# Altium integrated library Texas Instruments Power Management PWM Controller.IntLib: 1227 symbols (part 40 of 49)
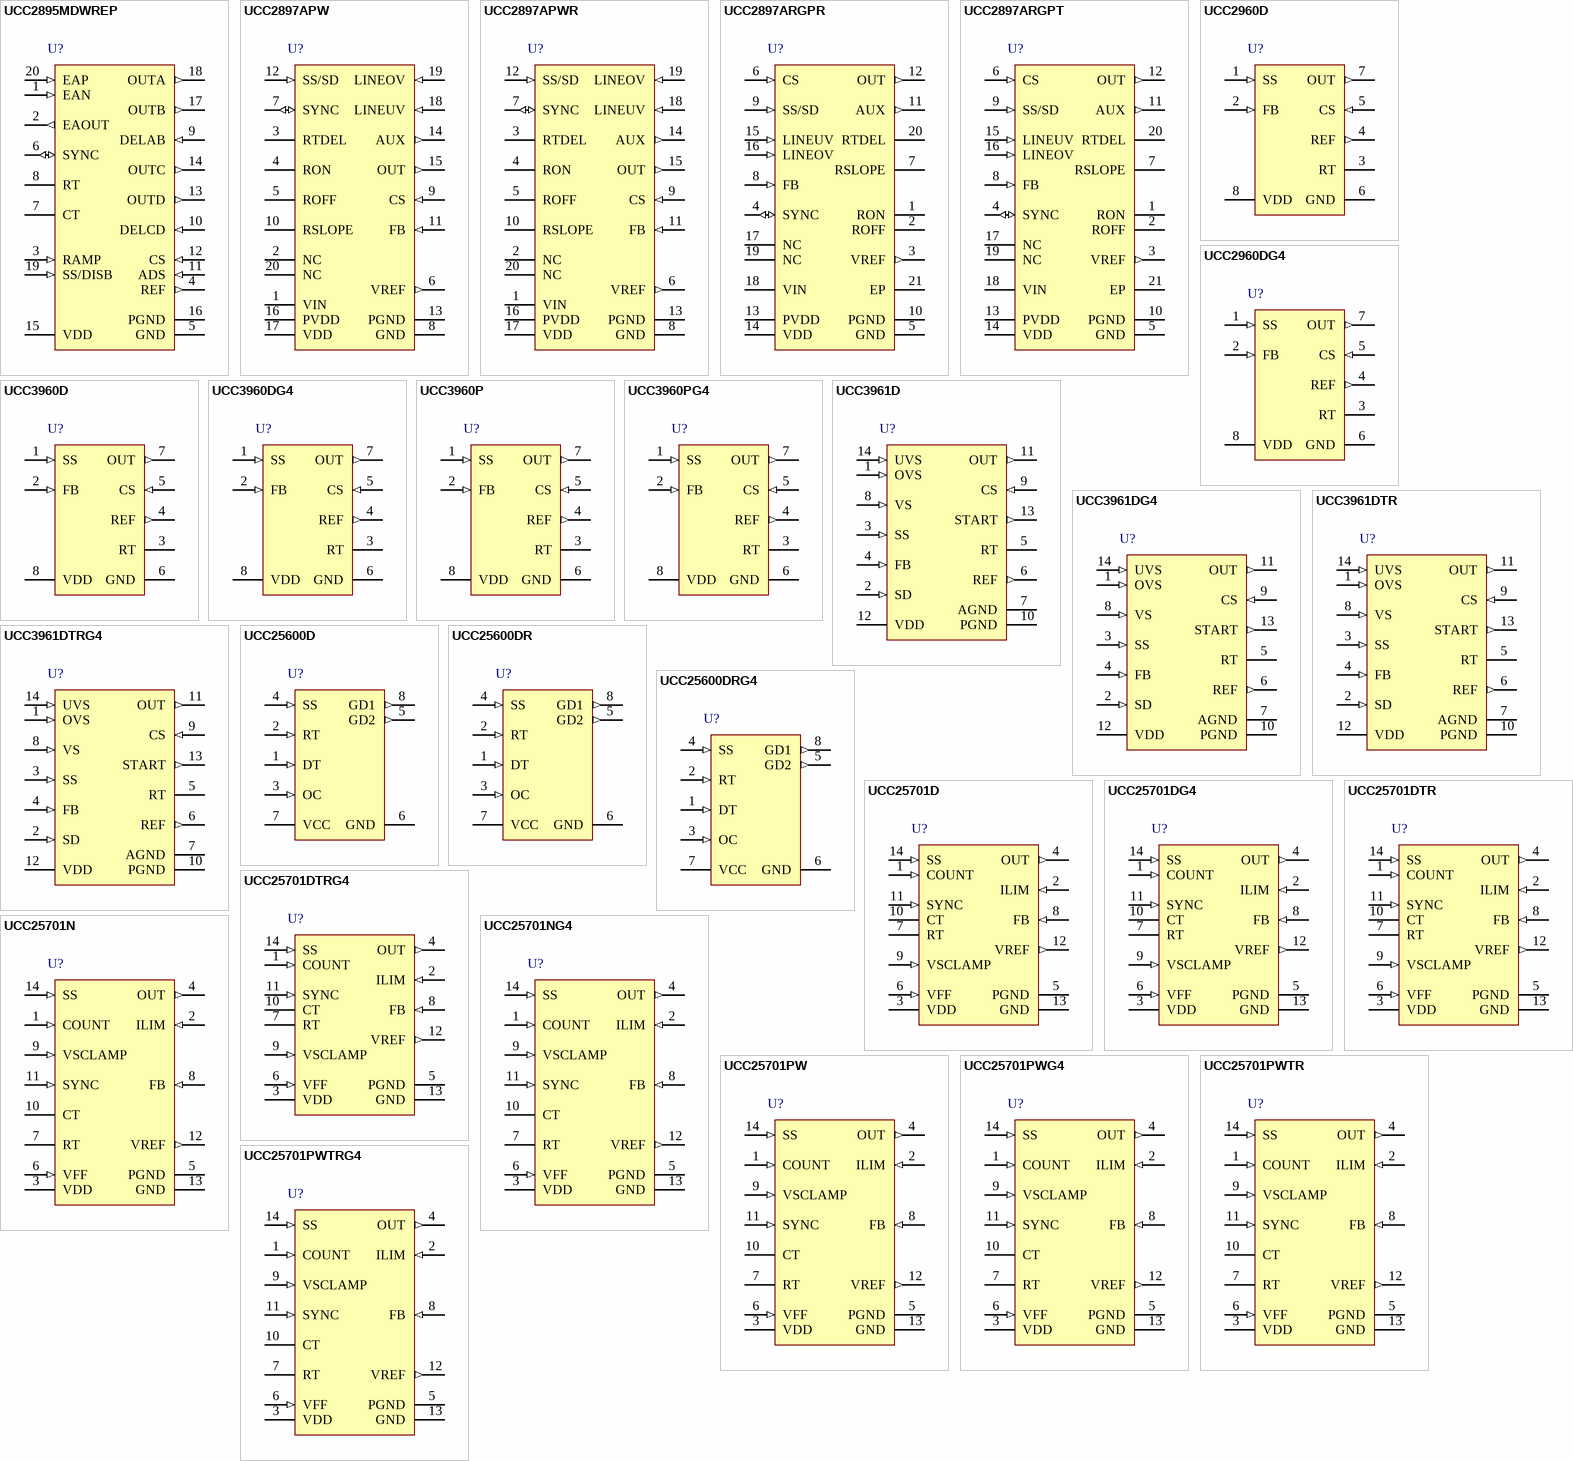
[diagram p82: symbols UCC2895MDWREP to UCC25701PWTRG4]

## UCC2897APW
designator U?
Advanced Active Clamp PWM Controller with Current Control, -40 to +125 degC, 20-pin TSSOP (PW), Green (RoHS & no Sb/Br); PartNumber: UCC2897APW; Manufacturer: Texas Instruments; Frequency(Max)(kHz): 1000; Rating: Catalog; Regulated Outputs(#): 1; DatasheetVersion: SLUS829D; PackageVersion: revG, Feb-2011; PackageReference: PW20; PackageDescription: 20-Pin Plastic Thin Small Outline Package 6.5 x 4.4 mm Body ,0.65 mm Pitch; Supplier 1: Digi-Key; Supplier Part Number 1: 296-27163-5-ND; Supplier 2: Farnell; Supplier Part Number 2: 1710839; Supplier 3: Newark; Supplier Part Number 3: 45P8386; Supplier 4: Mouser; Supplier Part Number 4: 595-UCC2897APW; Control Method: Current; Eco-Plan: Green (RoHS & no Sb/Br); SubFamily: PWM Controller; Mounting Technology: Surface Mount; Code_JEDEC: MO-153; ComponentLink1Description: Datasheet; ComponentLink1URL: http://www.ti.com/general/docs/lit/getliterature.tsp?genericPartNumber=UCC2897A&fileType=pdf
footprint PW20_N (TSOP, 20-Leads, Body 6.5x4.4mm, Pitch 0.65mm, IPC Medium Density)
footprint PW20_L (TSOP, 20-Leads, Body 6.5x4.4mm, Pitch 0.65mm, IPC High Density)
footprint PW20_M (TSOP, 20-Leads, Body 6.5x4.4mm, Pitch 0.65mm, IPC Low Density)
pins: 1 VIN (power) "This pin is connected to the input power rail directly. Inside the device, a high-voltage start-up device is utilized to provide the start-up current for the controller until a bootstrap type bias rail becomes available.", 2 NC "No connection.", 3 RTDEL "A resistor from this pin to GND programs the turn-on delay of the two gate drive outputs to accommodate the resonant transitions of the active clamp power converter.", 4 RON "A resistor connected from this pin to GND programs an internal current source that charges the internal timing capacitor.", 5 ROFF "A resistor connected from this pin to GND programs an internal current source that discharges the internal timing capacitor.", 6 VREF (out) "This is the 5-V reference voltage that can be utilized for an external load of up to 5 mA. Since this reference provides the supply rail for internal logic, it should be bypassed to AGND as close as possible to the device. (See Datasheet)", 7 SYNC (io) "The SYNC pin serves as a bidirectional synchronization input for the internal oscillator. The synchronization function is implemented such that the user programmable maximum duty cycle (set by RON and ROFF) remains accurate (See Datasheet)", 8 GND (power) "This pin serves as the fundamental analog ground for the PWM control circuitry. This pin should be connected to PGND directly at the device.", 9 CS (in) "This pin is used to sense the peak current utilized for current mode control and for current limiting functions. The peak signal which can be applied to this pin before pulse-by-pulse current limiting activates is (See Datasheet)", 10 RSLOPE "A resistor connected from this pin to GND programs an internal current source that sets the slope compensation ramp for the current mode control circuitry.", 11 FB (in) "This pin is used to bring the error signal from an external optocoupler or error amplifier into the PWM control circuitry. Often, there is a resistor tied from FB to VREF, and an optocoupler is used to pull the control pin (See Datasheet)", 12 SS/SD (in) "A capacitor from SS/SD to ground is charged by an internal current source of IRON to program the soft-start interval for the controller. During a fault condition this capacitor is discharged by a current source equal to IRON.", 13 PGND (power) "The PGND should serve as the current return for the high-current output drivers OUT and AUX. Ideally, the current path from the outputs to the switching devices, and back would be as short as possible, and enclose a minimal (See Datasheet)", 14 AUX (out) "This output drives the auxiliary clamp MOSFET which is turned on when the main PWM switching device is turned off. The AUX pin can directly drive the auxiliary switch with 2-A source turn-on current and 2-A sink turn-off (See Datasheet)", 15 OUT (out) "This output pin drives the main PWM switching element MOSFET in an active clamp controller. It can directly drive an N-channel device with 2-A source turn-on current and 2-A sink turn-off current. Recommend connecting a 10-k (See Datasheet)", 16 PVDD (power) "This is the supply pin for the power devices. It is separated internally from the VDD pin.", 17 VDD (power) "This is the power supply for the device. There should be a 1.0-uF capacitor directly from VDD to PGND. The capacitor value should be minimum 10 times bigger than that on VREF. PGND and GND should be connected externally and (See Datasheet)", 18 LINEUV (in) "This pin provides a means to accurately enable/disable the power converter stage by monitoring the bulk input voltage or another parameter. When the circuit initially starts (or restarts from a disabled condition), a rising (See Datasheet)", 19 LINEOV (in) "This is an input pin of voltage comparator with programmable hysteresis and 1.27-V threshold, providing LINE overvoltage or other functions.", 20 NC "No connection."

## UCC2897APWR
designator U?
Advanced Active Clamp PWM Controller with Current-Mode Control, -40 to +125 degC, 20-pin TSSOP (PW), Green (RoHS & no Sb/Br); PartNumber: UCC2897APWR; Manufacturer: Texas Instruments; Frequency(Max)(kHz): 1000; Rating: Catalog; Regulated Outputs(#): 1; DatasheetVersion: SLUS829D; PackageVersion: revG, Feb-2011; PackageReference: PW20; PackageDescription: 20-Pin Plastic Thin Small Outline Package 6.5 x 4.4 mm Body ,0.65 mm Pitch; Supplier 1: Digi-Key; Supplier Part Number 1: 296-24092-1-ND; Supplier 2: Digi-Key; Supplier Part Number 2: 296-24092-6-ND; Supplier 3: Newark; Supplier Part Number 3: 45P8387; Supplier 4: Mouser; Supplier Part Number 4: 595-UCC2897APWR; Control Method: Current; Eco-Plan: Green (RoHS & no Sb/Br); SubFamily: PWM Controller; Mounting Technology: Surface Mount; Code_JEDEC: MO-153; ComponentLink1Description: Datasheet; ComponentLink1URL: http://www.ti.com/general/docs/lit/getliterature.tsp?genericPartNumber=UCC2897A&fileType=pdf
footprint PW20_N (TSOP, 20-Leads, Body 6.5x4.4mm, Pitch 0.65mm, IPC Medium Density)
footprint PW20_L (TSOP, 20-Leads, Body 6.5x4.4mm, Pitch 0.65mm, IPC High Density)
footprint PW20_M (TSOP, 20-Leads, Body 6.5x4.4mm, Pitch 0.65mm, IPC Low Density)
pins: 1 VIN (power) "This pin is connected to the input power rail directly. Inside the device, a high-voltage start-up device is utilized to provide the start-up current for the controller until a bootstrap type bias rail becomes available.", 2 NC "No connection.", 3 RTDEL "A resistor from this pin to GND programs the turn-on delay of the two gate drive outputs to accommodate the resonant transitions of the active clamp power converter.", 4 RON "A resistor connected from this pin to GND programs an internal current source that charges the internal timing capacitor.", 5 ROFF "A resistor connected from this pin to GND programs an internal current source that discharges the internal timing capacitor.", 6 VREF (out) "This is the 5-V reference voltage that can be utilized for an external load of up to 5 mA. Since this reference provides the supply rail for internal logic, it should be bypassed to AGND as close as possible to the device. (See Datasheet)", 7 SYNC (io) "The SYNC pin serves as a bidirectional synchronization input for the internal oscillator. The synchronization function is implemented such that the user programmable maximum duty cycle (set by RON and ROFF) remains accurate (See Datasheet)", 8 GND (power) "This pin serves as the fundamental analog ground for the PWM control circuitry. This pin should be connected to PGND directly at the device.", 9 CS (in) "This pin is used to sense the peak current utilized for current mode control and for current limiting functions. The peak signal which can be applied to this pin before pulse-by-pulse current limiting activates is (See Datasheet)", 10 RSLOPE "A resistor connected from this pin to GND programs an internal current source that sets the slope compensation ramp for the current mode control circuitry.", 11 FB (in) "This pin is used to bring the error signal from an external optocoupler or error amplifier into the PWM control circuitry. Often, there is a resistor tied from FB to VREF, and an optocoupler is used to pull the control pin (See Datasheet)", 12 SS/SD (in) "A capacitor from SS/SD to ground is charged by an internal current source of IRON to program the soft-start interval for the controller. During a fault condition this capacitor is discharged by a current source equal to IRON.", 13 PGND (power) "The PGND should serve as the current return for the high-current output drivers OUT and AUX. Ideally, the current path from the outputs to the switching devices, and back would be as short as possible, and enclose a minimal (See Datasheet)", 14 AUX (out) "This output drives the auxiliary clamp MOSFET which is turned on when the main PWM switching device is turned off. The AUX pin can directly drive the auxiliary switch with 2-A source turn-on current and 2-A sink turn-off (See Datasheet)", 15 OUT (out) "This output pin drives the main PWM switching element MOSFET in an active clamp controller. It can directly drive an N-channel device with 2-A source turn-on current and 2-A sink turn-off current. Recommend connecting a 10-k (See Datasheet)", 16 PVDD (power) "This is the supply pin for the power devices. It is separated internally from the VDD pin.", 17 VDD (power) "This is the power supply for the device. There should be a 1.0-uF capacitor directly from VDD to PGND. The capacitor value should be minimum 10 times bigger than that on VREF. PGND and GND should be connected externally and (See Datasheet)", 18 LINEUV (in) "This pin provides a means to accurately enable/disable the power converter stage by monitoring the bulk input voltage or another parameter. When the circuit initially starts (or restarts from a disabled condition), a rising (See Datasheet)", 19 LINEOV (in) "This is an input pin of voltage comparator with programmable hysteresis and 1.27-V threshold, providing LINE overvoltage or other functions.", 20 NC "No connection."

## UCC2897ARGPR
designator U?
Advanced Active Clamp PWM Controller with Current Control, -40 to +125 degC, 20-pin QFN (RGP), Green (RoHS & no Sb/Br); PartNumber: UCC2897ARGPR; Manufacturer: Texas Instruments; Frequency(Max)(kHz): 1000; Rating: Catalog; Regulated Outputs(#): 1; DatasheetVersion: SLUS829D; PackageVersion: revG, Jul-2011; PackageReference: RGP20-2700X2700TP; PackageDescription: 20-Pin Plastic Quad Flatpack No-Lead, 4 x 4 mm Body, 0.5 mm Pitch; Supplier 1: Digi-Key; Supplier Part Number 1: UCC2897ARGPR-ND; Supplier 2: Mouser; Supplier Part Number 2: 595-UCC2897ARGPR; Control Method: Current; Eco-Plan: Green (RoHS & no Sb/Br); SubFamily: PWM Controller; Mounting Technology: Surface Mount; Code_JEDEC: MO-220; ComponentLink1Description: Datasheet; ComponentLink1URL: http://www.ti.com/general/docs/lit/getliterature.tsp?genericPartNumber=UCC2897A&fileType=pdf
footprint RGP20-2700X2700TP (QFN, 20-Leads, Body 4x4mm, Pitch 0.5mm, Thermal Pad 2.7x2.7mm, TI Recommended)
pins: 1 RON "A resistor connected from this pin to GND programs an internal current source that charges the internal timing capacitor.", 2 ROFF "A resistor connected from this pin to GND programs an internal current source that discharges the internal timing capacitor.", 3 VREF (out) "This is the 5 V reference voltage that can be utilized for an external load of up to 5 mA. Since this reference provides the supply rail for internal logic, it should be bypassed to AGND as close as possible to the device. (See Datasheet)", 4 SYNC (io) "The SYNC pin serves as a bidirectional synchronization input for the internal oscillator. The synchronization function is implemented such that the user programmable maximum duty cycle (set by RON and ROFF) remains accurate (See Datasheet)", 5 GND (power) "This pin serves as the fundamental analog ground for the PWM control circuitry. This pin should be connected to PGND directly at the device.", 6 CS (in) "This pin is used to sense the peak current utilized for current mode control and for current limiting functions. The peak signal which can be applied to this pin before pulse-by-pulse current limiting activates is (See Datasheet)", 7 RSLOPE "A resistor connected from this pin to GND programs an internal current source that sets the slope compensation ramp for the current mode control circuitry.", 8 FB (in) "This pin is used to bring the error signal from an external optocoupler or error amplifier into the PWM control circuitry. Often, there is a resistor tied from FB to VREF, and an optocoupler is used to pull the control pin (See Datasheet)", 9 SS/SD (in) "A capacitor from SS/SD to ground is charged by an internal current source of IRON to program the soft?start interval for the controller. During a fault condition this capacitor is discharged by a current source equal to IRON.", 10 PGND (power) "The PGND should serve as the current return for the high-current output drivers OUT and AUX. Ideally, the current path from the outputs to the switching devices, and back would be as short as possible, and enclose a minimal (See Datasheet)", 11 AUX (out) "This output drives the auxiliary clamp MOSFET which is turned on when the main PWM switching device is turned off. The AUX pin can directly drive the auxiliary switch with 2-A source turn-on current and 2-A sink turn-off (See Datasheet)", 12 OUT (out) "This output pin drives the main PWM switching element MOSFET in an active clamp controller. It can directly drive an N?channel device with 2?A source turn?on current and 2?A sink turn?off current. Recommend connecting a 10?k (See Datasheet)", 13 PVDD (power) "This is the supply pin for the power devices. It is separated internally from the VDD pin.", 14 VDD (power) "This is the power supply for the device. There should be a 1.0 uF capacitor directly from VDD to PGND. The capacitor value should be minimum 10 times bigger than that on VREF. PGND and GND should be connected externally and (See Datasheet)", 15 LINEUV (in) "This pin provides a means to accurately enable/disable the power converter stage by monitoring the bulk input voltage or another parameter. When the circuit initially starts (or restarts from a disabled condition), a rising (See Datasheet)", 16 LINEOV (in) "This is an input pin of voltage comparator with programmable hysteresis and 1.27 V threshold, providing LINE overvoltage or other functions.", 17 NC "No Connected", 18 VIN (power) "This pin is connected to the input power rail directly. Inside the device, a high voltage start-up device is utilized to provide the start-up current for the controller until a bootstrap type bias rail becomes available.", 19 NC "No Connected", 20 RTDEL "A resistor from this pin to GND programs the turn-on delay of the two gate drive outputs to accommodate the resonant transitions of the active clamp power converter.", 21 EP "Exposed Pad"

## UCC2897ARGPT
designator U?
Advanced Current-Mode Active Clamp PWM Controller with Current Control, -40 to +125 degC, 20-pin QFN (RGP), Green (RoHS & no Sb/Br); PartNumber: UCC2897ARGPT; Manufacturer: Texas Instruments; Frequency(Max)(kHz): 1000; Rating: Catalog; Regulated Outputs(#): 1; DatasheetVersion: SLUS829D; PackageVersion: revG, Jul-2011; PackageReference: RGP20-2700X2700TP; PackageDescription: 20-Pin Plastic Quad Flatpack No-Lead, 4 x 4 mm Body, 0.5 mm Pitch; Supplier 1: Digi-Key; Supplier Part Number 1: 296-24093-2-ND; Supplier 2: Digi-Key; Supplier Part Number 2: 296-24093-1-ND; Supplier 3: Digi-Key; Supplier Part Number 3: 296-24093-6-ND; Supplier 4: Newark; Supplier Part Number 4: 45P8389; Supplier 5: Newark; Supplier Part Number 5: 46P3779; Supplier 6: Mouser; Supplier Part Number 6: 595-UCC2897ARGPT; Control Method: Current; Eco-Plan: Green (RoHS & no Sb/Br); SubFamily: PWM Controller; Mounting Technology: Surface Mount; Code_JEDEC: MO-220; ComponentLink1Description: Datasheet; ComponentLink1URL: http://www.ti.com/general/docs/lit/getliterature.tsp?genericPartNumber=UCC2897A&fileType=pdf
footprint RGP20-2700X2700TP (QFN, 20-Leads, Body 4x4mm, Pitch 0.5mm, Thermal Pad 2.7x2.7mm, TI Recommended)
pins: 1 RON "A resistor connected from this pin to GND programs an internal current source that charges the internal timing capacitor.", 2 ROFF "A resistor connected from this pin to GND programs an internal current source that discharges the internal timing capacitor.", 3 VREF (out) "This is the 5 V reference voltage that can be utilized for an external load of up to 5 mA. Since this reference provides the supply rail for internal logic, it should be bypassed to AGND as close as possible to the device. (See Datasheet)", 4 SYNC (io) "The SYNC pin serves as a bidirectional synchronization input for the internal oscillator. The synchronization function is implemented such that the user programmable maximum duty cycle (set by RON and ROFF) remains accurate (See Datasheet)", 5 GND (power) "This pin serves as the fundamental analog ground for the PWM control circuitry. This pin should be connected to PGND directly at the device.", 6 CS (in) "This pin is used to sense the peak current utilized for current mode control and for current limiting functions. The peak signal which can be applied to this pin before pulse-by-pulse current limiting activates is (See Datasheet)", 7 RSLOPE "A resistor connected from this pin to GND programs an internal current source that sets the slope compensation ramp for the current mode control circuitry.", 8 FB (in) "This pin is used to bring the error signal from an external optocoupler or error amplifier into the PWM control circuitry. Often, there is a resistor tied from FB to VREF, and an optocoupler is used to pull the control pin (See Datasheet)", 9 SS/SD (in) "A capacitor from SS/SD to ground is charged by an internal current source of IRON to program the soft?start interval for the controller. During a fault condition this capacitor is discharged by a current source equal to IRON.", 10 PGND (power) "The PGND should serve as the current return for the high-current output drivers OUT and AUX. Ideally, the current path from the outputs to the switching devices, and back would be as short as possible, and enclose a minimal (See Datasheet)", 11 AUX (out) "This output drives the auxiliary clamp MOSFET which is turned on when the main PWM switching device is turned off. The AUX pin can directly drive the auxiliary switch with 2-A source turn-on current and 2-A sink turn-off (See Datasheet)", 12 OUT (out) "This output pin drives the main PWM switching element MOSFET in an active clamp controller. It can directly drive an N?channel device with 2?A source turn?on current and 2?A sink turn?off current. Recommend connecting a 10?k (See Datasheet)", 13 PVDD (power) "This is the supply pin for the power devices. It is separated internally from the VDD pin.", 14 VDD (power) "This is the power supply for the device. There should be a 1.0 uF capacitor directly from VDD to PGND. The capacitor value should be minimum 10 times bigger than that on VREF. PGND and GND should be connected externally and (See Datasheet)", 15 LINEUV (in) "This pin provides a means to accurately enable/disable the power converter stage by monitoring the bulk input voltage or another parameter. When the circuit initially starts (or restarts from a disabled condition), a rising (See Datasheet)", 16 LINEOV (in) "This is an input pin of voltage comparator with programmable hysteresis and 1.27 V threshold, providing LINE overvoltage or other functions.", 17 NC "No Connected", 18 VIN (power) "This pin is connected to the input power rail directly. Inside the device, a high voltage start-up device is utilized to provide the start-up current for the controller until a bootstrap type bias rail becomes available.", 19 NC "No Connected", 20 RTDEL "A resistor from this pin to GND programs the turn-on delay of the two gate drive outputs to accommodate the resonant transitions of the active clamp power converter.", 21 EP "Exposed Pad"

## UCC2960D
designator U?
Primary-Side Startup Controller, 72 % Duty Cycle, -40 to +85 degC, 8-pin SOIC (D), Green (RoHS & no Sb/Br); PartNumber: UCC2960D; Manufacturer: Texas Instruments; Duty Cycle(Max)(%): 72; Frequency(Max)(kHz): 400; Rating: Catalog; Regulated Outputs(#): 1; SubFamily: PWM Controller; DatasheetVersion: SLUS430A; PackageVersion: revM, Jun-2011; PackageReference: D8; PackageDescription: 8-Pin Plastic Small Outline Integrated Circuit, 4.9 x 3.9 mm, Pitch 1.27 mm Pitch; Supplier 1: Digi-Key; Supplier Part Number 1: 296-11421-5-ND; Supplier 2: Newark; Supplier Part Number 2: 77C2231; Supplier 3: Mouser; Supplier Part Number 3: 595-UCC2960D; Eco-Plan: Green (RoHS & no Sb/Br); Mounting Technology: Surface Mount; Code_JEDEC: MS-012AA; ComponentLink1Description: Datasheet; ComponentLink1URL: http://www.ti.com/general/docs/lit/getliterature.tsp?genericPartNumber=UCC2960&fileType=pdf
footprint D8_N (SOIC, 8-Leads, Body 4.9x3.9mm, Pitch 1.27mm, IPC Medium Density)
footprint D8_L (SOIC, 8-Leads, Body 4.9x3.9mm, Pitch 1.27mm, IPC High Density)
footprint D8_M (SOIC, 8-Leads, Body 4.9x3.9mm, Pitch 1.27mm, IPC Low Density)
pins: 1 SS (in) "Primary-side soft-start function", 2 FB (in) "Control input for the signal from a secondary-side PWM controller", 3 RT "Sets the free-running startup oscillator frequency", 4 REF (out) "Output reference", 5 CS (in) "Pulse-by-pulse and shutdown overcurrent sense input pin", 6 GND (power) "Ground for the IC.", 7 OUT (out) "Drive pin for the MOSFET power switch", 8 VDD (power) "Power input connection"

## UCC2960DG4
designator U?
Primary-Side Startup Controllor, 72 % Duty Cycle, -40 to +85 degC, 8-pin SOIC (D), Green (RoHS & no Sb/Br); PartNumber: UCC2960DG4; Manufacturer: Texas Instruments; Duty Cycle(Max)(%): 72; Frequency(Max)(kHz): 400; Rating: Catalog; Regulated Outputs(#): 1; SubFamily: PWM Controller; DatasheetVersion: SLUS430A; PackageVersion: revM, Jun-2011; PackageReference: D8; PackageDescription: 8-Pin Plastic Small Outline Integrated Circuit, 4.9 x 3.9 mm, Pitch 1.27 mm Pitch; Supplier 1: Digi-Key; Supplier Part Number 1: UCC2960DG4-ND; Supplier 2: Newark; Supplier Part Number 2: 54K2078; Supplier 3: Mouser; Supplier Part Number 3: 595-UCC2960DG4; Eco-Plan: Green (RoHS & no Sb/Br); Mounting Technology: Surface Mount; Code_JEDEC: MS-012AA; ComponentLink1Description: Datasheet; ComponentLink1URL: http://www.ti.com/general/docs/lit/getliterature.tsp?genericPartNumber=UCC2960&fileType=pdf
footprint D8_N (SOIC, 8-Leads, Body 4.9x3.9mm, Pitch 1.27mm, IPC Medium Density)
footprint D8_L (SOIC, 8-Leads, Body 4.9x3.9mm, Pitch 1.27mm, IPC High Density)
footprint D8_M (SOIC, 8-Leads, Body 4.9x3.9mm, Pitch 1.27mm, IPC Low Density)
pins: 1 SS (in) "Primary-side soft-start function", 2 FB (in) "Control input for the signal from a secondary-side PWM controller", 3 RT "Sets the free-running startup oscillator frequency", 4 REF (out) "Output reference", 5 CS (in) "Pulse-by-pulse and shutdown overcurrent sense input pin", 6 GND (power) "Ground for the IC.", 7 OUT (out) "Drive pin for the MOSFET power switch", 8 VDD (power) "Power input connection"

## UCC3960D
designator U?
Primary-Side Startup Controller, 72 % Duty Cycle, 0 to +70 degC, 8-pin, SOIC (D), Green (RoHS & no Sb/Br); PartNumber: UCC3960D; Manufacturer: Texas Instruments; Duty Cycle(Max)(%): 72; Frequency(Max)(kHz): 400; Rating: Catalog; Regulated Outputs(#): 1; SubFamily: PWM Controller; DatasheetVersion: SLUS430A; PackageVersion: revM, Jun-2011; PackageReference: D8; PackageDescription: 8-Pin Plastic Small Outline Integrated Circuit, 4.9 x 3.9 mm, Pitch 1.27 mm Pitch; Supplier 1: Digi-Key; Supplier Part Number 1: 296-11561-5-ND; Supplier 2: Newark; Supplier Part Number 2: 77C2661; Supplier 3: Mouser; Supplier Part Number 3: 595-UCC3960D; Eco-Plan: Green (RoHS & no Sb/Br); Mounting Technology: Surface Mount; Code_JEDEC: MS-012AA; ComponentLink1Description: Datasheet; ComponentLink1URL: http://www.ti.com/general/docs/lit/getliterature.tsp?genericPartNumber=UCC3960&fileType=pdf
footprint D8_N (SOIC, 8-Leads, Body 4.9x3.9mm, Pitch 1.27mm, IPC Medium Density)
footprint D8_L (SOIC, 8-Leads, Body 4.9x3.9mm, Pitch 1.27mm, IPC High Density)
footprint D8_M (SOIC, 8-Leads, Body 4.9x3.9mm, Pitch 1.27mm, IPC Low Density)
pins: 1 SS (in) "Primary-side soft-start function", 2 FB (in) "Control input for the signal from a secondary-side PWM controller", 3 RT "Sets the free-running startup oscillator frequency.", 4 REF (out) "Output reference", 5 CS (in) "Pulse-by-pulse and shutdown overcurrent sense input pin", 6 GND (power) "Ground for the IC.", 7 OUT (out) "Drive pin for the MOSFET power switch", 8 VDD (power) "Power input connection"

## UCC3960DG4
designator U?
Primary-Side Startup Controller, 72 % Duty Cycle, 0 to +70 degC, 8-pin, SOIC (D), Green (RoHS & no Sb/Br); PartNumber: UCC3960DG4; Manufacturer: Texas Instruments; Duty Cycle(Max)(%): 72; Frequency(Max)(kHz): 400; Rating: Catalog; Regulated Outputs(#): 1; SubFamily: PWM Controller; DatasheetVersion: SLUS430A; PackageVersion: revM, Jun-2011; PackageReference: D8; PackageDescription: 8-Pin Plastic Small Outline Integrated Circuit, 4.9 x 3.9 mm, Pitch 1.27 mm Pitch; Supplier 1: Digi-Key; Supplier Part Number 1: UCC3960DG4-ND; Supplier 2: Newark; Supplier Part Number 2: 54K2211; Supplier 3: Mouser; Supplier Part Number 3: 595-UCC3960DG4; Eco-Plan: Green (RoHS & no Sb/Br); Mounting Technology: Surface Mount; Code_JEDEC: MS-012AA; ComponentLink1Description: Datasheet; ComponentLink1URL: http://www.ti.com/general/docs/lit/getliterature.tsp?genericPartNumber=UCC3960&fileType=pdf
footprint D8_N (SOIC, 8-Leads, Body 4.9x3.9mm, Pitch 1.27mm, IPC Medium Density)
footprint D8_L (SOIC, 8-Leads, Body 4.9x3.9mm, Pitch 1.27mm, IPC High Density)
footprint D8_M (SOIC, 8-Leads, Body 4.9x3.9mm, Pitch 1.27mm, IPC Low Density)
pins: 1 SS (in) "Primary-side soft-start function", 2 FB (in) "Control input for the signal from a secondary-side PWM controller", 3 RT "Sets the free-running startup oscillator frequency.", 4 REF (out) "Output reference", 5 CS (in) "Pulse-by-pulse and shutdown overcurrent sense input pin", 6 GND (power) "Ground for the IC.", 7 OUT (out) "Drive pin for the MOSFET power switch", 8 VDD (power) "Power input connection"

## UCC3960P
designator U?
Primary-Side Startup Controller, 72 % Duty Cycle, 0 to +70 degC, 8-pin, PDIP (P), Green (RoHS & no Sb/Br); PartNumber: UCC3960P; Manufacturer: Texas Instruments; Duty Cycle(Max)(%): 72; Frequency(Max)(kHz): 400; Rating: Catalog; Regulated Outputs(#): 1; SubFamily: PWM Controller; DatasheetVersion: SLUS430A; PackageVersion: revE, Apr-2010; PackageReference: P8; PackageDescription: 8-Pin Plastic Dual-In-Line Package, Row Spacing 7.62 mm, Pitch 2.54 mm; Supplier 1: Digi-Key; Supplier Part Number 1: 296-11562-5-ND; Supplier 2: Newark; Supplier Part Number 2: 77C2663; Supplier 3: Mouser; Supplier Part Number 3: 595-UCC3960P; Eco-Plan: Green (RoHS & no Sb/Br); Mounting Technology: Through Hole; Code_JEDEC: MS-001-BA; ComponentLink1Description: Datasheet; ComponentLink1URL: http://www.ti.com/general/docs/lit/getliterature.tsp?genericPartNumber=UCC3960&fileType=pdf
footprint P8 (DIP, 8-Leads, Row Spacing 7.62mm, Pitch 2.54mm, Body 9.6x6.4mm)
pins: 1 SS (in) "Primary-side soft-start function", 2 FB (in) "Control input for the signal from a secondary-side PWM controller", 3 RT "Sets the free-running startup oscillator frequency.", 4 REF (out) "Output reference", 5 CS (in) "Pulse-by-pulse and shutdown overcurrent sense input pin", 6 GND (power) "Ground for the IC.", 7 OUT (out) "Drive pin for the MOSFET power switch", 8 VDD (power) "Power input connection"

## UCC3960PG4
designator U?
Primary-Side Startup Controller, 72 % Duty Cycle, 0 to +70 degC, 8-pin, PDIP (P), Green (RoHS & no Sb/Br); PartNumber: UCC3960PG4; Manufacturer: Texas Instruments; Duty Cycle(Max)(%): 72; Frequency(Max)(kHz): 400; Rating: Catalog; Regulated Outputs(#): 1; SubFamily: PWM Controller; DatasheetVersion: SLUS430A; PackageVersion: revE, Apr-2010; PackageReference: P8; PackageDescription: 8-Pin Plastic Dual-In-Line Package, Row Spacing 7.62 mm, Pitch 2.54 mm; Supplier 1: Digi-Key; Supplier Part Number 1: UCC3960PG4-ND; Supplier 2: Newark; Supplier Part Number 2: 24K6353; Supplier 3: Mouser; Supplier Part Number 3: 595-UCC3960PG4; Eco-Plan: Green (RoHS & no Sb/Br); Mounting Technology: Through Hole; Code_JEDEC: MS-001-BA; ComponentLink1Description: Datasheet; ComponentLink1URL: http://www.ti.com/general/docs/lit/getliterature.tsp?genericPartNumber=UCC3960&fileType=pdf
footprint P8 (DIP, 8-Leads, Row Spacing 7.62mm, Pitch 2.54mm, Body 9.6x6.4mm)
pins: 1 SS (in) "Primary-side soft-start function", 2 FB (in) "Control input for the signal from a secondary-side PWM controller", 3 RT "Sets the free-running startup oscillator frequency.", 4 REF (out) "Output reference", 5 CS (in) "Pulse-by-pulse and shutdown overcurrent sense input pin", 6 GND (power) "Ground for the IC.", 7 OUT (out) "Drive pin for the MOSFET power switch", 8 VDD (power) "Power input connection"

## UCC3961D
designator U?
Advanced Primary-Side Startup Controller, 72 % Duty Cycle, 0 to +70 degC, 14-pin SOIC (D), Green (RoHS & no Sb/Br); PartNumber: UCC3961D; Manufacturer: Texas Instruments; Duty Cycle(Max)(%): 72; Frequency(Max)(kHz): 400; Rating: Catalog; Regulated Outputs(#): 1; SubFamily: PWM Controller; DatasheetVersion: SLUS431A; PackageVersion: revM, Jun-2011; PackageReference: D14; PackageDescription: 14-Pin Plastic Small Outline Integrated Circuit, 8.7 x 3.9 mm, Pitch 1.27 mm Pitch; Supplier 1: Digi-Key; Supplier Part Number 1: 296-11563-5-ND; Supplier 2: Newark; Supplier Part Number 2: 77C2664; Supplier 3: Mouser; Supplier Part Number 3: 595-UCC3961D; Eco-Plan: Green (RoHS & no Sb/Br); Mounting Technology: Surface Mount; Code_JEDEC: MS-012AB; ComponentLink1Description: Datasheet; ComponentLink1URL: http://www.ti.com/general/docs/lit/getliterature.tsp?genericPartNumber=UCC3961&fileType=pdf
footprint D14_N (SOIC, 14-Leads, Body 8.7x3.9mm, Pitch 1.27mm, IPC Medium Density)
footprint D14_L (SOIC, 14-Leads, Body 8.7x3.9mm, Pitch 1.27mm, IPC High Density)
footprint D14_M (SOIC, 14-Leads, Body 8.7x3.9mm, Pitch 1.27mm, IPC Low Density)
pins: 1 OVS (in) "This pin is used with an external resistor divider of VIN to terminate operation if a voltage is sensed above the internal 4 V threshold. Activation sets the shutdown latch that requires recycling the voltage on VDD to (See Datasheet)", 2 SD (in) "Input to the shutdown circuit.", 3 SS (in) "The pin implements the primary-side soft-start function. This is the connection point for an external capacitor that determines the rate of increase in commanded pulse width for the power switch at startup. It also serves as (See Datasheet)", 4 FB (in) "Control input for the signal from a secondary-side PWM controller", 5 RT "Sets the free-running startup oscillator frequency", 6 REF (out) "This is a 5-V output usable with external loads of up to 10 mA. This voltage is also the source for all internal analog threshold settings and should be bypassed with a minimum of 0.1-μF capacitance to AGND.", 7 AGND (power) "This pin is the reference point for grounding all analog functions and must be kept as clean as possible from all switching noise. It should be connected to PGND in only one location as close to the IC as practical.", 8 VS (in) "Volt-second clamp", 9 CS (in) "Pulse-by-pulse and shutdown overcurrent sense input pin", 10 PGND (power) "This power ground for the PWM output stage conducts any current transients from the power switch gate drive. It should be closely bypassed to VDD and connected to AGND in only one location as close to the IC as possible.", 11 OUT (out) "Drive pin for the MOSFET power switch", 12 VDD (power) "Power input connection for all control circuitry", 13 START (out) "Used to develop a regulated 12 V at VDD and thereby minimize or eliminate continuous current drain", 14 UVS (in) "This pin is used with an external resistor divider of Vin to terminate operation if a voltage is sensed below the internal 4-V threshold. Activation maintains the circuit in shutdown with the soft-start capacitor clamped low."

## UCC3961DG4
designator U?
Advanced Primary-Side Startup Controller, 72 % Duty Cycle, 0 to +70 degC, 14-pin SOIC (D), Green (RoHS & no Sb/Br); PartNumber: UCC3961DG4; Manufacturer: Texas Instruments; Duty Cycle(Max)(%): 72; Frequency(Max)(kHz): 400; Rating: Catalog; Regulated Outputs(#): 1; SubFamily: PWM Controller; DatasheetVersion: SLUS431A; PackageVersion: revM, Jun-2011; PackageReference: D14; PackageDescription: 14-Pin Plastic Small Outline Integrated Circuit, 8.7 x 3.9 mm, Pitch 1.27 mm Pitch; Supplier 1: Digi-Key; Supplier Part Number 1: UCC3961DG4-ND; Supplier 2: Newark; Supplier Part Number 2: 10M0713; Supplier 3: Mouser; Supplier Part Number 3: 595-UCC3961DG4; Eco-Plan: Green (RoHS & no Sb/Br); Mounting Technology: Surface Mount; Code_JEDEC: MS-012AB; ComponentLink1Description: Datasheet; ComponentLink1URL: http://www.ti.com/general/docs/lit/getliterature.tsp?genericPartNumber=UCC3961&fileType=pdf
footprint D14_N (SOIC, 14-Leads, Body 8.7x3.9mm, Pitch 1.27mm, IPC Medium Density)
footprint D14_L (SOIC, 14-Leads, Body 8.7x3.9mm, Pitch 1.27mm, IPC High Density)
footprint D14_M (SOIC, 14-Leads, Body 8.7x3.9mm, Pitch 1.27mm, IPC Low Density)
pins: 1 OVS (in) "This pin is used with an external resistor divider of VIN to terminate operation if a voltage is sensed above the internal 4 V threshold. Activation sets the shutdown latch that requires recycling the voltage on VDD to (See Datasheet)", 2 SD (in) "Input to the shutdown circuit.", 3 SS (in) "The pin implements the primary-side soft-start function. This is the connection point for an external capacitor that determines the rate of increase in commanded pulse width for the power switch at startup. It also serves as (See Datasheet)", 4 FB (in) "Control input for the signal from a secondary-side PWM controller", 5 RT "Sets the free-running startup oscillator frequency", 6 REF (out) "This is a 5-V output usable with external loads of up to 10 mA. This voltage is also the source for all internal analog threshold settings and should be bypassed with a minimum of 0.1-μF capacitance to AGND.", 7 AGND (power) "This pin is the reference point for grounding all analog functions and must be kept as clean as possible from all switching noise. It should be connected to PGND in only one location as close to the IC as practical.", 8 VS (in) "Volt-second clamp", 9 CS (in) "Pulse-by-pulse and shutdown overcurrent sense input pin", 10 PGND (power) "This power ground for the PWM output stage conducts any current transients from the power switch gate drive. It should be closely bypassed to VDD and connected to AGND in only one location as close to the IC as possible.", 11 OUT (out) "Drive pin for the MOSFET power switch", 12 VDD (power) "Power input connection for all control circuitry", 13 START (out) "Used to develop a regulated 12 V at VDD and thereby minimize or eliminate continuous current drain", 14 UVS (in) "This pin is used with an external resistor divider of Vin to terminate operation if a voltage is sensed below the internal 4-V threshold. Activation maintains the circuit in shutdown with the soft-start capacitor clamped low."

## UCC3961DTR
designator U?
Advanced Primary-Side Startup Controller, 72 % Duty Cycle, 0 to +70 degC, 14-pin SOIC (D), Green (RoHS & no Sb/Br); PartNumber: UCC3961DTR; Manufacturer: Texas Instruments; Duty Cycle(Max)(%): 72; Frequency(Max)(kHz): 400; Rating: Catalog; Regulated Outputs(#): 1; SubFamily: PWM Controller; DatasheetVersion: SLUS431A; PackageVersion: revM, Jun-2011; PackageReference: D14; PackageDescription: 14-Pin Plastic Small Outline Integrated Circuit, 8.7 x 3.9 mm, Pitch 1.27 mm Pitch; Supplier 1: Digi-Key; Supplier Part Number 1: UCC3961DTR-ND; Supplier 2: Newark; Supplier Part Number 2: 77C2665; Supplier 3: Mouser; Supplier Part Number 3: 595-UCC3961DTR; Eco-Plan: Green (RoHS & no Sb/Br); Mounting Technology: Surface Mount; Code_JEDEC: MS-012AB; ComponentLink1Description: Datasheet; ComponentLink1URL: http://www.ti.com/general/docs/lit/getliterature.tsp?genericPartNumber=UCC3961&fileType=pdf
footprint D14_N (SOIC, 14-Leads, Body 8.7x3.9mm, Pitch 1.27mm, IPC Medium Density)
footprint D14_L (SOIC, 14-Leads, Body 8.7x3.9mm, Pitch 1.27mm, IPC High Density)
footprint D14_M (SOIC, 14-Leads, Body 8.7x3.9mm, Pitch 1.27mm, IPC Low Density)
pins: 1 OVS (in) "This pin is used with an external resistor divider of VIN to terminate operation if a voltage is sensed above the internal 4 V threshold. Activation sets the shutdown latch that requires recycling the voltage on VDD to (See Datasheet)", 2 SD (in) "Input to the shutdown circuit.", 3 SS (in) "The pin implements the primary-side soft-start function. This is the connection point for an external capacitor that determines the rate of increase in commanded pulse width for the power switch at startup. It also serves as (See Datasheet)", 4 FB (in) "Control input for the signal from a secondary-side PWM controller", 5 RT "Sets the free-running startup oscillator frequency", 6 REF (out) "This is a 5-V output usable with external loads of up to 10 mA. This voltage is also the source for all internal analog threshold settings and should be bypassed with a minimum of 0.1-μF capacitance to AGND.", 7 AGND (power) "This pin is the reference point for grounding all analog functions and must be kept as clean as possible from all switching noise. It should be connected to PGND in only one location as close to the IC as practical.", 8 VS (in) "Volt-second clamp", 9 CS (in) "Pulse-by-pulse and shutdown overcurrent sense input pin", 10 PGND (power) "This power ground for the PWM output stage conducts any current transients from the power switch gate drive. It should be closely bypassed to VDD and connected to AGND in only one location as close to the IC as possible.", 11 OUT (out) "Drive pin for the MOSFET power switch", 12 VDD (power) "Power input connection for all control circuitry", 13 START (out) "Used to develop a regulated 12 V at VDD and thereby minimize or eliminate continuous current drain", 14 UVS (in) "This pin is used with an external resistor divider of Vin to terminate operation if a voltage is sensed below the internal 4-V threshold. Activation maintains the circuit in shutdown with the soft-start capacitor clamped low."

## UCC3961DTRG4
designator U?
Advanced Primary-Side Startup Controller, 72 % Duty Cycle, 0 to +70 degC, 14-pin SOIC (D), Green (RoHS & no Sb/Br); PartNumber: UCC3961DTRG4; Manufacturer: Texas Instruments; Duty Cycle(Max)(%): 72; Frequency(Max)(kHz): 400; Rating: Catalog; Regulated Outputs(#): 1; SubFamily: PWM Controller; DatasheetVersion: SLUS431A; PackageVersion: revM, Jun-2011; PackageReference: D14; PackageDescription: 14-Pin Plastic Small Outline Integrated Circuit, 8.7 x 3.9 mm, Pitch 1.27 mm Pitch; Supplier 1: Digi-Key; Supplier Part Number 1: UCC3961DTRG4-ND; Supplier 2: Newark; Supplier Part Number 2: 58K7090; Supplier 3: Mouser; Supplier Part Number 3: 595-UCC3961DTRG4; Eco-Plan: Green (RoHS & no Sb/Br); Mounting Technology: Surface Mount; Code_JEDEC: MS-012AB; ComponentLink1Description: Datasheet; ComponentLink1URL: http://www.ti.com/general/docs/lit/getliterature.tsp?genericPartNumber=UCC3961&fileType=pdf
footprint D14_N (SOIC, 14-Leads, Body 8.7x3.9mm, Pitch 1.27mm, IPC Medium Density)
footprint D14_L (SOIC, 14-Leads, Body 8.7x3.9mm, Pitch 1.27mm, IPC High Density)
footprint D14_M (SOIC, 14-Leads, Body 8.7x3.9mm, Pitch 1.27mm, IPC Low Density)
pins: 1 OVS (in) "This pin is used with an external resistor divider of VIN to terminate operation if a voltage is sensed above the internal 4 V threshold. Activation sets the shutdown latch that requires recycling the voltage on VDD to (See Datasheet)", 2 SD (in) "Input to the shutdown circuit.", 3 SS (in) "The pin implements the primary-side soft-start function. This is the connection point for an external capacitor that determines the rate of increase in commanded pulse width for the power switch at startup. It also serves as (See Datasheet)", 4 FB (in) "Control input for the signal from a secondary-side PWM controller", 5 RT "Sets the free-running startup oscillator frequency", 6 REF (out) "This is a 5-V output usable with external loads of up to 10 mA. This voltage is also the source for all internal analog threshold settings and should be bypassed with a minimum of 0.1-μF capacitance to AGND.", 7 AGND (power) "This pin is the reference point for grounding all analog functions and must be kept as clean as possible from all switching noise. It should be connected to PGND in only one location as close to the IC as practical.", 8 VS (in) "Volt-second clamp", 9 CS (in) "Pulse-by-pulse and shutdown overcurrent sense input pin", 10 PGND (power) "This power ground for the PWM output stage conducts any current transients from the power switch gate drive. It should be closely bypassed to VDD and connected to AGND in only one location as close to the IC as possible.", 11 OUT (out) "Drive pin for the MOSFET power switch", 12 VDD (power) "Power input connection for all control circuitry", 13 START (out) "Used to develop a regulated 12 V at VDD and thereby minimize or eliminate continuous current drain", 14 UVS (in) "This pin is used with an external resistor divider of Vin to terminate operation if a voltage is sensed below the internal 4-V threshold. Activation maintains the circuit in shutdown with the soft-start capacitor clamped low."

## UCC25600D
designator U?
High-Performance Resonant Mode Controller with Voltage Control, 50 % Duty Cycle, -40 to +125 degC, 8-pin SOIC (D), Green (RoHS & no Sb/Br); PartNumber: UCC25600D; Manufacturer: Texas Instruments; Duty Cycle(Max)(%): 50; Frequency(Max)(kHz): 350; Rating: Catalog; Regulated Outputs(#): 2; SubFamily: PWM Controller; Topology: Resonant, Half-Bridge; UVLO Thresholds On/Off(V): 10.5/9.5; DatasheetVersion: SLUS846B; PackageVersion: revM, Jun-2011; PackageReference: D8; PackageDescription: 8-Pin Plastic Small Outline Integrated Circuit, 4.9 x 3.9 mm, Pitch 1.27 mm Pitch; Supplier 1: Digi-Key; Supplier Part Number 1: 296-23976-5-ND; Supplier 2: Farnell; Supplier Part Number 2: 1694437; Supplier 3: Newark; Supplier Part Number 3: 34P6588; Supplier 4: Mouser; Supplier Part Number 4: 595-UCC25600D; Control Method: Voltage; Eco-Plan: Green (RoHS & no Sb/Br); Mounting Technology: Surface Mount; Code_JEDEC: MS-012AA; ComponentLink1Description: Datasheet; ComponentLink1URL: http://www.ti.com/general/docs/lit/getliterature.tsp?genericPartNumber=UCC25600&fileType=pdf
footprint D8_N (SOIC, 8-Leads, Body 4.9x3.9mm, Pitch 1.27mm, IPC Medium Density)
footprint D8_L (SOIC, 8-Leads, Body 4.9x3.9mm, Pitch 1.27mm, IPC High Density)
footprint D8_M (SOIC, 8-Leads, Body 4.9x3.9mm, Pitch 1.27mm, IPC Low Density)
pins: 1 DT (in) "This pin sets the dead time of high-side and low-side switch driving signals. Connect a resistor to ground. With internal 2.25-V voltage reference, the current flowing through the resistor sets the dead time. To prevent (See Datasheet)", 2 RT (in) "The current flowing out of this pin sets the frequency of the gate driver signals. Connect the opto-coupler collector to this pin to control the switching frequency for regulation purpose. Parallel a resistor to ground to (See Datasheet)", 3 OC (in) "Over-current protection pin. When the voltage on this pin is above 1 V, gate driver signals are actively pulled low. After the voltage falls below 0.6 V, the gate driver signal recovers with soft start. When OC pin voltage (See Datasheet)", 4 SS (in) "Soft-start pin. This pin sets the soft-start time of the system. Connect a capacitor to ground. Pulling this pin below 1 V will disable the device to allow easy ON/OFF control. The soft-start function is enabled after all (See Datasheet)", 5 GD2 (out) "High-side and low-side switch gate driver. Connect gate driver transformer primary side to these two pins to drive the half bridge.", 6 GND (power) "Ground.", 7 VCC (power) "Bias Supply. Connect this pin to a power supply less than 20 V. Parallel a 1-uF capacitor to ground to filter out noise.", 8 GD1 (out) "High-side and low-side switch gate driver. Connect gate driver transformer primary side to these two pins to drive the half bridge."

## UCC25600DR
designator U?
High-Performance Resonant Mode Controller with Voltage Control, 50 % Duty Cycle, -40 to +125 degC, 8-pin SOIC (D), Green (RoHS & no Sb/Br); PartNumber: UCC25600DR; Manufacturer: Texas Instruments; Duty Cycle(Max)(%): 50; Frequency(Max)(kHz): 350; Rating: Catalog; Regulated Outputs(#): 2; SubFamily: PWM Controller; Topology: Resonant, Half-Bridge; UVLO Thresholds On/Off(V): 10.5/9.5; DatasheetVersion: SLUS846B; PackageVersion: revM, Jun-2011; PackageReference: D8; PackageDescription: 8-Pin Plastic Small Outline Integrated Circuit, 4.9 x 3.9 mm, Pitch 1.27 mm Pitch; Supplier 1: Digi-Key; Supplier Part Number 1: UCC25600DR-ND; Supplier 2: Newark; Supplier Part Number 2: 34P6589; Supplier 3: Mouser; Supplier Part Number 3: 595-UCC25600DR; Control Method: Voltage; Eco-Plan: Green (RoHS & no Sb/Br); Mounting Technology: Surface Mount; Code_JEDEC: MS-012AA; ComponentLink1Description: Datasheet; ComponentLink1URL: http://www.ti.com/general/docs/lit/getliterature.tsp?genericPartNumber=UCC25600&fileType=pdf
footprint D8_N (SOIC, 8-Leads, Body 4.9x3.9mm, Pitch 1.27mm, IPC Medium Density)
footprint D8_L (SOIC, 8-Leads, Body 4.9x3.9mm, Pitch 1.27mm, IPC High Density)
footprint D8_M (SOIC, 8-Leads, Body 4.9x3.9mm, Pitch 1.27mm, IPC Low Density)
pins: 1 DT (in) "This pin sets the dead time of high-side and low-side switch driving signals. Connect a resistor to ground. With internal 2.25-V voltage reference, the current flowing through the resistor sets the dead time. To prevent (See Datasheet)", 2 RT (in) "The current flowing out of this pin sets the frequency of the gate driver signals. Connect the opto-coupler collector to this pin to control the switching frequency for regulation purpose. Parallel a resistor to ground to (See Datasheet)", 3 OC (in) "Over-current protection pin. When the voltage on this pin is above 1 V, gate driver signals are actively pulled low. After the voltage falls below 0.6 V, the gate driver signal recovers with soft start. When OC pin voltage (See Datasheet)", 4 SS (in) "Soft-start pin. This pin sets the soft-start time of the system. Connect a capacitor to ground. Pulling this pin below 1 V will disable the device to allow easy ON/OFF control. The soft-start function is enabled after all (See Datasheet)", 5 GD2 (out) "High-side and low-side switch gate driver. Connect gate driver transformer primary side to these two pins to drive the half bridge.", 6 GND (power) "Ground.", 7 VCC (power) "Bias Supply. Connect this pin to a power supply less than 20 V. Parallel a 1-uF capacitor to ground to filter out noise.", 8 GD1 (out) "High-side and low-side switch gate driver. Connect gate driver transformer primary side to these two pins to drive the half bridge."